# EAGLE library part VL53L0X (library pimoroni-ics)
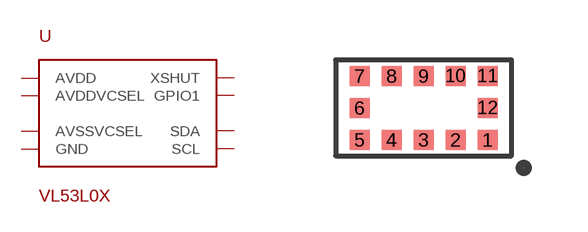
[diagram p50: symbol with the pads of VL53L0X; footprint VL53L0X]

Designator prefix -

## VL53L0X  [VL53L0X]
1  AVDDVCSEL
2  AVSSVCSEL
3  GND
4  GND
5  XSHUT
6  GND
7  GPIO1
9  SDA
10  SCL
11  AVDD
12  GND

## Footprint VL53L0X (pad centres in mm)
smd 0.5 x 0.5: 1 1.6,-0.8; 2 0.8,-0.8; 3 0,-0.8; 4 -0.8,-0.8; 5 -1.6,-0.8; 6 -1.6,0; 7 -1.6,0.8; 8 -0.8,0.8; 9 0,0.8; 10 0.8,0.8; 11 1.6,0.8; 12 1.6,0